# EAGLE library part TDA8927 (library Audio-Power-amlifier V.2.0)
Power stage 2 ´ 80 W class-D audio amplifier
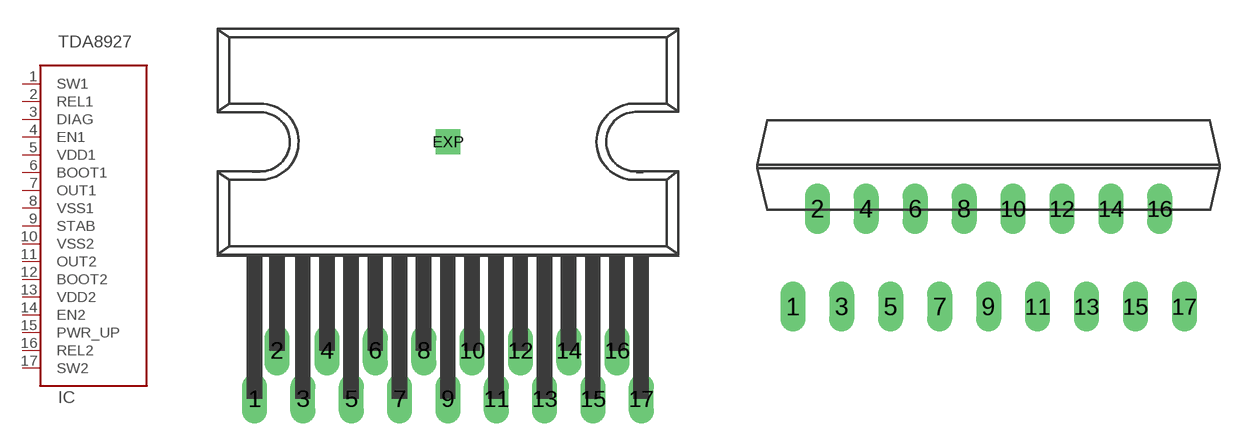
[diagram p216: symbol with the pads of SOT577-2; footprints SOT577-2, SOT243-1]

Designator prefix IC

## TDA8927TDA8927ST  [SOT577-2]
1  SW1  in
2  REL1  out
3  DIAG  out
4  EN1  in
5  VDD1  pwr
6  BOOT1
7  OUT1  out
8  VSS1  pwr
9  STAB
10  VSS2  pwr
11  OUT2  out
12  BOOT2
13  VDD2  pwr
14  EN2  in
15  PWR_UP  in
16  REL2  out
17  SW2  in

## TDA8927TDA8927J  [SOT243-1]
Pads as for SOT577-2

## Footprint SOT577-2 (pad centres in mm)
drill 0.8 long: 1 -10.16,-13.5; 2 -8.98,-10.96; 3 -7.62,-13.5; 4 -6.35,-10.96; 5 -5.08,-13.5; 6 -3.81,-10.96; 7 -2.54,-13.5; 8 -1.27,-10.96; 9 0,-13.5; 10 1.27,-10.96; 11 2.54,-13.5; 12 3.81,-10.96; 13 5.08,-13.5; 14 6.35,-10.96; 15 7.62,-13.5; 16 8.89,-10.96; 17 10.16,-13.5
drill 0.8 square: EXP 0,0

## Footprint SOT243-1 (pad centres in mm)
DBS17P: plastic DIL-bent-SIL power package; 17 leads (lead length 7.7 mm)
drill 0.8 long: 1 -10.16,-5.08; 2 -8.89,0; 3 -7.62,-5.08; 4 -6.35,0; 5 -5.08,-5.08; 6 -3.81,0; 7 -2.54,-5.08; 8 -1.27,0; 9 0,-5.08; 10 1.27,0; 11 2.54,-5.08; 12 3.81,0; 13 5.08,-5.08; 14 6.35,0; 15 7.62,-5.08; 16 8.89,0; 17 10.17,-5.08